# Altium schematic symbol library Clock.SchLib: 1 symbol
Pins are listed as number, name and electrical type; pins without a type are passive.

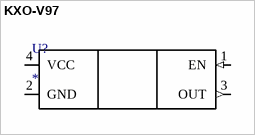
[diagram p0: symbol KXO-V97]

## KXO-V97
designator U?
XO; Name: *
pins: 1 EN (in), 2 GND (power), 3 OUT (out), 4 VCC (power)